# Altium schematic symbol library Gates.SchLib: 1 symbol
Pins are listed as number, name and electrical type; pins without a type are passive.

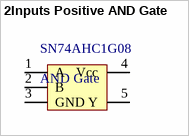
[diagram p0: symbol 2Inputs Positive AND Gate]

## 2Inputs Positive AND Gate
designator SN74AHC1G08, comment AND Gate
pins: 1 A, 2 B, 3 GND, 4 Vcc, 5 Y